# EAGLE library part MCP7940N-I/SN (library MCP7940N-I_SN)
http://octopart.com/mcp7940m-i%2Fsn-microchip-21636090
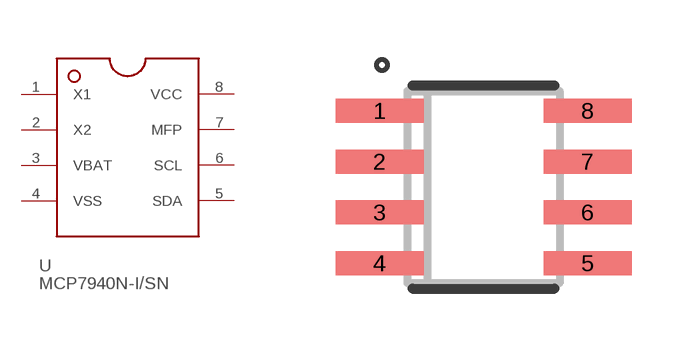
[diagram p0: symbol with the pads of SO08; footprint SO08]

Designator prefix U

## MCP7940N-I/SN  [SO08]
1  X1  in
2  X2  out
3  VBAT  pas
4  VSS  pas
5  SDA
6  SCL  in
7  MFP
8  VCC  pwr

## Footprint SO08 (pad centres in mm)
smd 2.2 x 0.6: 1 -2.6,1.905; 2 -2.6,0.635; 3 -2.6,-0.635; 4 -2.6,-1.905; 5 2.6,-1.905; 6 2.6,-0.635; 7 2.6,0.635; 8 2.6,1.905